# EAGLE library part MM74HC259MTCX (library Fairchild_By_element14_Batch_1)
8-Bit Addressable Latch/3-to-8 Line Decoder
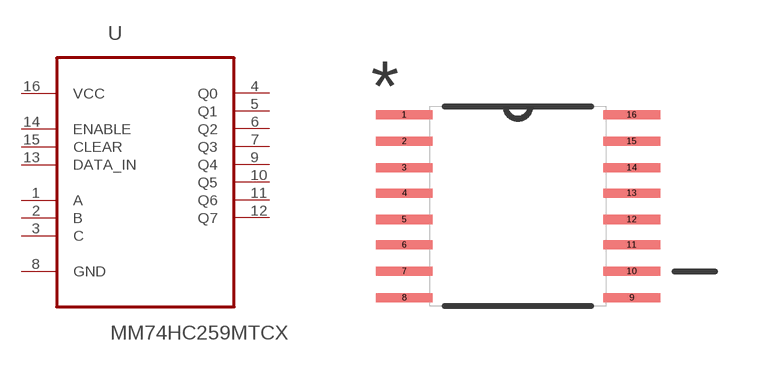
[diagram p269: symbol with the pads of SOP65P640X90-16N; footprint SOP65P640X90-16N]

Designator prefix U

## MM74HC259MTCX (MPN: MM74HC259MTCX; OC_FARNELL: 1607831; OC_NEWARK: 58K1947; PACKAGE: TSSOP-16; SUPPLIER: FAIRCHILD SEMICONDUCTOR)  [SOP65P640X90-16N]
1  A  in
2  B  in
3  C  in
4  Q0  out
5  Q1  out
6  Q2  out
7  Q3  out
8  GND  pas
9  Q4  out
10  Q5  out
11  Q6  out
12  Q7  out
13  DATA_IN  in
14  ENABLE  in
15  CLEAR  in
16  VCC  pwr

## Footprint SOP65P640X90-16N (pad centres in mm)
smd 1.422 x 0.229: 1 -2.845,2.286; 2 -2.845,1.626; 3 -2.845,0.965; 4 -2.845,0.33; 5 -2.845,-0.33; 6 -2.845,-0.965; 7 -2.845,-1.626; 8 -2.845,-2.286; 9 2.845,-2.286; 10 2.845,-1.626; 11 2.845,-0.965; 12 2.845,-0.33; 13 2.845,0.33; 14 2.845,0.965; 15 2.845,1.626; 16 2.845,2.286